# Altium schematic symbol library KGM21AR71E225KU.SchLib: 1 symbol
Pins are listed as number, name and electrical type; pins without a type are passive.

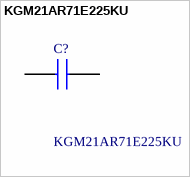
[diagram p0: symbol KGM21AR71E225KU]

## KGM21AR71E225KU
designator C?
Multilayer Ceramic Capacitors MLCC - SMD/SMT 25V 2.2uF X7R 0805 10%; Manufacturer_Name: Kyocera AVX; Geometry.Height: 1.35mm; Mouser Part Number: 581-KGM21AR71E225KU; Mouser Price/Stock: https://www.mouser.co.uk/ProductDetail/KYOCERA-AVX/KGM21AR71E225KU?qs=Jm2GQyTW%2FbhCn4KuUMBp1Q%3D%3D; Manufacturer_Part_Number: KGM21AR71E225KU; Datasheet Link: *
footprint CAPC2012X135N
pins: 1, 2